# Altium integrated library 530480410.IntLib: 1 symbol
Pins are listed as number, name and electrical type; pins without a type are passive.

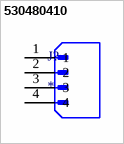
[diagram p0: symbol 530480410]

## 530480410
designator J?
MP: 530480410; Availability: Unavailable; Price: None; Package: None; Value: *
footprint MOLEX_530480410
pins: 1, 2, 3, 4